# Altium footprint library LEDs.PcbLib: 54 footprints (part 1 of 4)
Each footprint in its own frame and in the unit in brackets; x right, y up, seen from the top. Pads: shape width x height; smd on the part's side, far side on the other; paste and mask are expansions set on the pad; w line width, h text height; cw(c..) or ccw(c..) is an arc to the next point about the centre after c.
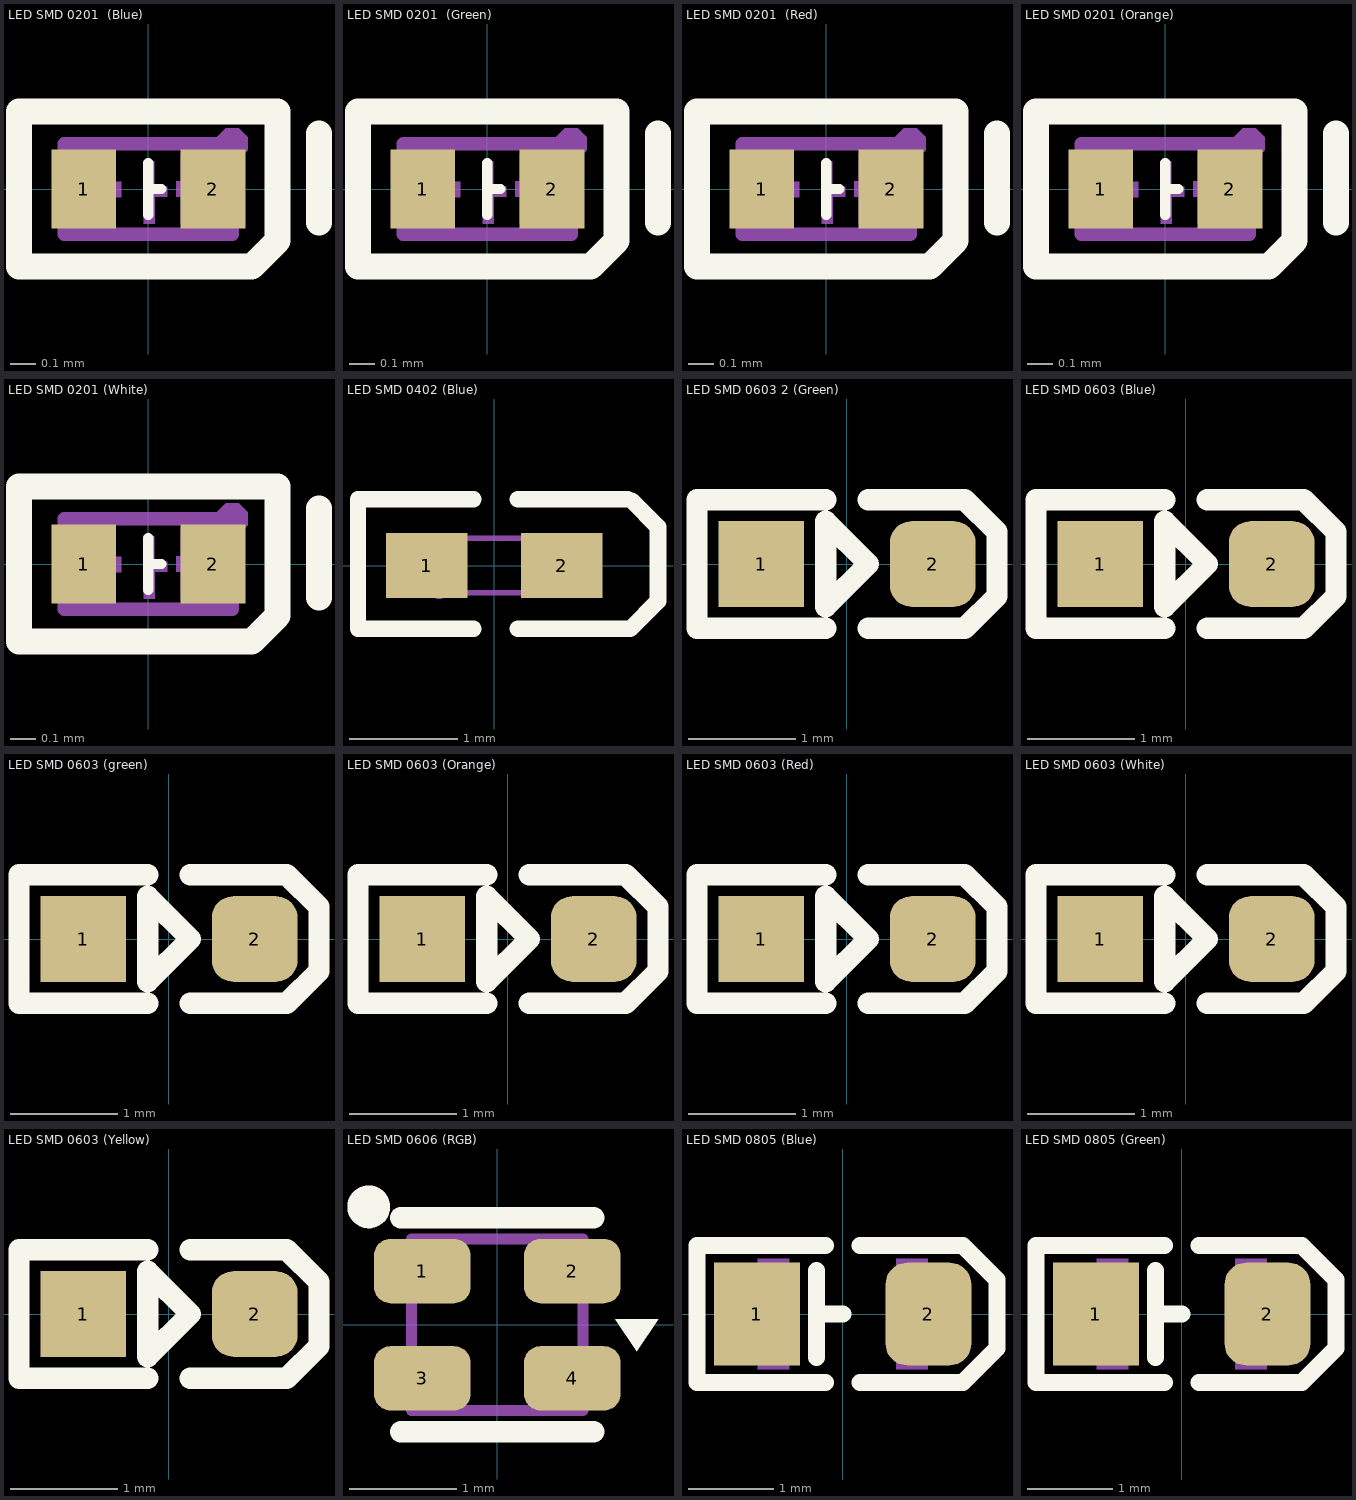
[diagram p0: the footprints below, top view; thin cyan lines are the x and y axes]

## LED SMD 0201  (Blue) [mm]
pads (2):
  rect 0.25x0.305 smd paste+0 mask+0.05: 1(-0.25,0) 2(0.25,0)
Top Overlay:
  lines w0.04: 0,-0.1 0,0.1 ; 0,0 0.05,0
  lines w0.1: -0.2,-0.3 0.4,-0.3 0.5,-0.2 0.5,0.3 -0.5,0.3 -0.5,-0.3 -0.1,-0.3 ; 0.66,-0.13 0.66,0.215
Mechanical 6:
  region: 0.318,0.03 0.108,0.03 0.108,-0.03 0.318,-0.03
  region: -0.24,0.098 -0.24,-0.112 -0.18,-0.112 -0.18,0.098
  region: -0.104,0.029 -0.314,0.029 -0.314,-0.031 -0.104,-0.031
  region: 0.025,-0.134 -0.017,-0.134 -0.017,0.108 0.023,0.108 0.023,0.008 0.073,0.008 0.073,-0.029 0.025,-0.029 0.025,-0.034
Mechanical 15:
  region: 0.265,0.175 0.265,0.15 0.3,0.115 0.35,0.115 0.385,0.15 0.385,0.175 0.385,0.2 0.35,0.235 0.3,0.235 0.265,0.2
  region: -0.125,-0.135 -0.285,-0.135 -0.285,0.135 -0.125,0.135
  region: 0.285,-0.135 0.125,-0.135 0.125,0.135 0.285,0.135
  lines w0.051: -0.325,-0.175 0.325,-0.175 0.325,0.175 -0.325,0.175 -0.325,-0.175

## LED SMD 0201  (Green) [mm]
pads (2):
  rect 0.25x0.305 smd paste+0 mask+0.05: 1(-0.25,0) 2(0.25,0)
Top Overlay:
  lines w0.04: 0,-0.1 0,0.1 ; 0,0 0.05,0
  lines w0.1: -0.2,-0.3 0.4,-0.3 0.5,-0.2 0.5,0.3 -0.5,0.3 -0.5,-0.3 -0.1,-0.3 ; 0.66,-0.13 0.66,0.215
Mechanical 6:
  region: 0.318,0.03 0.108,0.03 0.108,-0.03 0.318,-0.03
  region: -0.24,0.098 -0.24,-0.112 -0.18,-0.112 -0.18,0.098
  region: -0.104,0.029 -0.314,0.029 -0.314,-0.031 -0.104,-0.031
  region: 0.025,-0.134 -0.017,-0.134 -0.017,0.108 0.023,0.108 0.023,0.008 0.073,0.008 0.073,-0.029 0.025,-0.029 0.025,-0.034
Mechanical 15:
  region: 0.265,0.175 0.265,0.15 0.3,0.115 0.35,0.115 0.385,0.15 0.385,0.175 0.385,0.2 0.35,0.235 0.3,0.235 0.265,0.2
  region: -0.125,-0.135 -0.285,-0.135 -0.285,0.135 -0.125,0.135
  region: 0.285,-0.135 0.125,-0.135 0.125,0.135 0.285,0.135
  lines w0.051: -0.325,-0.175 0.325,-0.175 0.325,0.175 -0.325,0.175 -0.325,-0.175

## LED SMD 0201  (Red) [mm]
pads (2):
  rect 0.25x0.305 smd paste+0 mask+0.05: 1(-0.25,0) 2(0.25,0)
Top Overlay:
  lines w0.04: 0,-0.1 0,0.1 ; 0,0 0.05,0
  lines w0.1: -0.2,-0.3 0.4,-0.3 0.5,-0.2 0.5,0.3 -0.5,0.3 -0.5,-0.3 -0.1,-0.3 ; 0.66,-0.13 0.66,0.215
Mechanical 6:
  region: 0.025,-0.134 -0.017,-0.134 -0.017,0.108 0.023,0.108 0.023,0.008 0.073,0.008 0.073,-0.029 0.025,-0.029 0.025,-0.034
  region: -0.104,0.029 -0.314,0.029 -0.314,-0.031 -0.104,-0.031
  region: -0.24,0.098 -0.24,-0.112 -0.18,-0.112 -0.18,0.098
  region: 0.318,0.03 0.108,0.03 0.108,-0.03 0.318,-0.03
Mechanical 15:
  region: 0.285,-0.135 0.125,-0.135 0.125,0.135 0.285,0.135
  region: -0.125,-0.135 -0.285,-0.135 -0.285,0.135 -0.125,0.135
  region: 0.265,0.175 0.265,0.15 0.3,0.115 0.35,0.115 0.385,0.15 0.385,0.175 0.385,0.2 0.35,0.235 0.3,0.235 0.265,0.2
  lines w0.051: -0.325,-0.175 -0.325,0.175 0.325,0.175 0.325,-0.175 -0.325,-0.175

## LED SMD 0201 (Orange) [mm]
pads (2):
  rect 0.25x0.305 smd paste+0 mask+0.05: 1(-0.25,0) 2(0.25,0)
Top Overlay:
  lines w0.04: 0,-0.1 0,0.1 ; 0,0 0.05,0
  lines w0.1: -0.2,-0.3 0.4,-0.3 0.5,-0.2 0.5,0.3 -0.5,0.3 -0.5,-0.3 -0.1,-0.3 ; 0.66,-0.13 0.66,0.215
Mechanical 6:
  region: 0.025,-0.134 -0.017,-0.134 -0.017,0.108 0.023,0.108 0.023,0.008 0.073,0.008 0.073,-0.029 0.025,-0.029 0.025,-0.034
  region: -0.104,0.029 -0.314,0.029 -0.314,-0.031 -0.104,-0.031
  region: -0.24,0.098 -0.24,-0.112 -0.18,-0.112 -0.18,0.098
  region: 0.318,0.03 0.108,0.03 0.108,-0.03 0.318,-0.03
Mechanical 15:
  region: 0.285,-0.135 0.125,-0.135 0.125,0.135 0.285,0.135
  region: -0.125,-0.135 -0.285,-0.135 -0.285,0.135 -0.125,0.135
  region: 0.265,0.175 0.265,0.15 0.3,0.115 0.35,0.115 0.385,0.15 0.385,0.175 0.385,0.2 0.35,0.235 0.3,0.235 0.265,0.2
  lines w0.051: -0.325,-0.175 -0.325,0.175 0.325,0.175 0.325,-0.175 -0.325,-0.175

## LED SMD 0201 (White) [mm]
pads (2):
  rect 0.25x0.305 smd paste+0 mask+0.05: 1(-0.25,0) 2(0.25,0)
Top Overlay:
  lines w0.04: 0,-0.1 0,0.1 ; 0,0 0.05,0
  lines w0.1: -0.2,-0.3 0.4,-0.3 0.5,-0.2 0.5,0.3 -0.5,0.3 -0.5,-0.3 -0.1,-0.3 ; 0.66,-0.13 0.66,0.215
Mechanical 6:
  region: 0.318,0.03 0.108,0.03 0.108,-0.03 0.318,-0.03
  region: -0.24,0.098 -0.24,-0.112 -0.18,-0.112 -0.18,0.098
  region: -0.104,0.029 -0.314,0.029 -0.314,-0.031 -0.104,-0.031
  region: 0.025,-0.134 -0.017,-0.134 -0.017,0.108 0.023,0.108 0.023,0.008 0.073,0.008 0.073,-0.029 0.025,-0.029 0.025,-0.034
Mechanical 15:
  region: 0.265,0.175 0.265,0.15 0.3,0.115 0.35,0.115 0.385,0.15 0.385,0.175 0.385,0.2 0.35,0.235 0.3,0.235 0.265,0.2
  region: -0.125,-0.135 -0.285,-0.135 -0.285,0.135 -0.125,0.135
  region: 0.285,-0.135 0.125,-0.135 0.125,0.135 0.285,0.135
  lines w0.051: -0.325,-0.175 0.325,-0.175 0.325,0.175 -0.325,0.175 -0.325,-0.175

## LED SMD 0402 (Blue) [mm]
pads (2):
  rect 0.75x0.6 smd: 1(-0.623,0) 2(0.623,0)
Top Overlay:
  lines w0.15: -0.19,-0.583 -1.257,-0.583 -1.257,0.611 -0.19,0.611
  lines w0.152: 0.216,-0.583 1.257,-0.583 1.511,-0.329 1.511,0.357 1.27,0.598 1.232,0.611 0.216,0.611
Mechanical 6:
  region: -0.584,0.203 -0.584,-0.203 -0.66,-0.203 -0.66,0.203
  region: -0.406,-0.038 -0.813,-0.038 -0.813,0.038 -0.406,0.038
  region: 0.94,-0.038 0.533,-0.038 0.533,0.038 0.94,0.038
Mechanical 15:
  region: 0.297,0.25 0.51,0.25 0.51,-0.25 0.297,-0.25
  region: -0.297,-0.25 -0.51,-0.25 -0.51,0.25 -0.297,0.25
  region: -0.57,-0.25 -0.569,-0.274 -0.534,-0.308 -0.486,-0.308 -0.451,-0.274 -0.45,-0.25 -0.451,-0.226 -0.486,-0.192 -0.534,-0.192 -0.569,-0.226 -0.57,-0.25
  lines w0.051: -0.5,-0.25 -0.5,0.25 0.5,0.25 0.5,-0.25 -0.5,-0.25

## LED SMD 0603 2 (Green) [mm]
pads (2):
  rect 0.8x0.8 smd mask+0.075: 1(-0.8,0)
  rrect50% 0.8x0.8 smd mask+0.075: 2(0.8,0)
Top Overlay:
  lines w0.2: -0.2,-0.6 -1.4,-0.6 -1.4,0.6 -0.2,0.6 ; 0.2,-0.6 1.1,-0.6 1.4,-0.3 1.4,0.3 1.1,0.6 0.2,0.6 ; -0.2,-0.4 0.2,0 -0.2,0.4 -0.2,-0.4
3D body "User Library-LTST-C190GKT.STEP": height 0.9, standoff 0, extent -0.85,-0.45 0.85,0.45

## LED SMD 0603 (Blue) [mm]
pads (2):
  rect 0.8x0.8 smd mask+0.075: 1(-0.8,0)
  rrect50% 0.8x0.8 smd mask+0.075: 2(0.8,0)
Top Overlay:
  lines w0.2: -0.2,-0.6 -1.4,-0.6 -1.4,0.6 -0.2,0.6 ; 0.2,-0.6 1.1,-0.6 1.4,-0.3 1.4,0.3 1.1,0.6 0.2,0.6 ; -0.2,-0.4 -0.2,0.4 0.2,0 -0.2,-0.4
3D body: height 0.4, standoff 0, extent 0.6,-0.4 0.8,0.4
3D body: height 0.4, standoff 0, extent -0.8,-0.4 -0.6,0.4
3D body: height 0.4, standoff 0, extent -0.6,-0.4 0.6,0.4
3D body: height 0.5, standoff 0, extent -0.4,-0.3 0.4,0.3

## LED SMD 0603 (green) [mm]
pads (2):
  rect 0.8x0.8 smd mask+0.075: 1(-0.8,0)
  rrect50% 0.8x0.8 smd mask+0.075: 2(0.8,0)
Top Overlay:
  lines w0.2: -0.2,-0.6 -1.4,-0.6 -1.4,0.6 -0.2,0.6 ; 0.2,-0.6 1.1,-0.6 1.4,-0.3 1.4,0.3 1.1,0.6 0.2,0.6 ; -0.2,-0.4 -0.2,0.4 0.2,0 -0.2,-0.4
3D body: height 0.5, standoff 0, extent -0.4,-0.3 0.4,0.3
3D body: height 0.4, standoff 0, extent -0.6,-0.4 0.6,0.4
3D body: height 0.4, standoff 0, extent -0.8,-0.4 -0.6,0.4
3D body: height 0.4, standoff 0, extent 0.6,-0.4 0.8,0.4

## LED SMD 0603 (Orange) [mm]
pads (2):
  rect 0.8x0.8 smd mask+0.075: 1(-0.8,0)
  rrect50% 0.8x0.8 smd mask+0.075: 2(0.8,0)
Top Overlay:
  lines w0.2: -0.2,-0.6 -1.4,-0.6 -1.4,0.6 -0.2,0.6 ; 0.2,-0.6 1.1,-0.6 1.4,-0.3 1.4,0.3 1.1,0.6 0.2,0.6 ; -0.2,-0.4 -0.2,0.4 0.2,0 -0.2,-0.4
3D body: height 0.4, standoff 0, extent 0.6,-0.4 0.8,0.4
3D body: height 0.4, standoff 0, extent -0.8,-0.4 -0.6,0.4
3D body: height 0.4, standoff 0, extent -0.6,-0.4 0.6,0.4
3D body: height 0.5, standoff 0, extent -0.4,-0.3 0.4,0.3

## LED SMD 0603 (Red) [mm]
pads (2):
  rect 0.8x0.8 smd mask+0.075: 1(-0.8,0)
  rrect50% 0.8x0.8 smd mask+0.075: 2(0.8,0)
Top Overlay:
  lines w0.2: -0.2,-0.6 -1.4,-0.6 -1.4,0.6 -0.2,0.6 ; 0.2,-0.6 1.1,-0.6 1.4,-0.3 1.4,0.3 1.1,0.6 0.2,0.6 ; -0.2,-0.4 0.2,0 -0.2,0.4 -0.2,-0.4
3D body: height 0.4, standoff 0, extent 0.6,-0.4 0.8,0.4
3D body: height 0.4, standoff 0, extent -0.8,-0.4 -0.6,0.4
3D body: height 0.4, standoff 0, extent -0.6,-0.4 0.6,0.4
3D body: height 0.5, standoff 0, extent -0.4,-0.3 0.4,0.3

## LED SMD 0603 (White) [mm]
pads (2):
  rect 0.8x0.8 smd mask+0.075: 1(-0.8,0)
  rrect50% 0.8x0.8 smd mask+0.075: 2(0.8,0)
Top Overlay:
  lines w0.2: -0.2,-0.6 -1.4,-0.6 -1.4,0.6 -0.2,0.6 ; 0.2,-0.6 1.1,-0.6 1.4,-0.3 1.4,0.3 1.1,0.6 0.2,0.6 ; -0.2,-0.4 -0.2,0.4 0.2,0 -0.2,-0.4
3D body: height 0.5, standoff 0, extent -0.4,-0.3 0.4,0.3
3D body: height 0.4, standoff 0, extent -0.6,-0.4 0.6,0.4
3D body: height 0.4, standoff 0, extent -0.8,-0.4 -0.6,0.4
3D body: height 0.4, standoff 0, extent 0.6,-0.4 0.8,0.4

## LED SMD 0603 (Yellow) [mm]
pads (2):
  rect 0.8x0.8 smd mask+0.075: 1(-0.8,0)
  rrect50% 0.8x0.8 smd mask+0.075: 2(0.8,0)
Top Overlay:
  lines w0.2: -0.2,-0.6 -1.4,-0.6 -1.4,0.6 -0.2,0.6 ; 0.2,-0.6 1.1,-0.6 1.4,-0.3 1.4,0.3 1.1,0.6 0.2,0.6 ; -0.2,-0.4 -0.2,0.4 0.2,0 -0.2,-0.4
3D body: height 0.5, standoff 0, extent -0.4,-0.3 0.4,0.3
3D body: height 0.4, standoff 0, extent -0.6,-0.4 0.6,0.4
3D body: height 0.4, standoff 0, extent -0.8,-0.4 -0.6,0.4
3D body: height 0.4, standoff 0, extent 0.6,-0.4 0.8,0.4

## LED SMD 0606 (RGB) [mm]
pads (4):
  rrect50% 0.9x0.6 smd: 1(-0.7,0.5) 2(0.7,0.5) 3(-0.7,-0.5) 4(0.7,-0.5)
Top Overlay:
  circle w0.2: c-1.2,1.1 r0.1
  region: 1.1,0.05 1.5,0.05 1.3,-0.25
  lines w0.2: -0.9,-1 0.9,-1 ; -0.9,1 0.9,1
Mechanical 13:
  lines w0.1: -0.8,-0.8 -0.8,0.8 0.8,0.8 0.8,-0.8 -0.8,-0.8
3D body "User Library-HSMF-C114.step": height 0.34, standoff -0.01, extent -0.8,-0.75 0.8,0.75

## LED SMD 0805 (Blue) [mm]
pads (2):
  rect 1x1.2 smd mask+0.075: 1(-1,0)
  rrect50% 1x1.2 smd mask+0.075: 2(1,0)
Top Overlay:
  lines w0.2: -0.305,-0.508 -0.305,0.508 ; -0.305,0 0,0 ; -0.2,-0.8 -1.7,-0.8 -1.7,0.8 -0.2,0.8 ; 0.2,-0.8 1.4,-0.8 1.8,-0.4 1.8,0.4 1.4,0.8 0.2,0.8
Mechanical 13:
  region: 0.995,-0.19 0.842,-0.19 0.842,-0.65 0.995,-0.65
  region: 0.995,0.65 0.842,0.65 0.842,0.191 0.995,0.191
  region: 0.848,0.65 0.619,0.65 0.619,-0.65 0.848,-0.65
  rectangle: -0.995,-0.65 -0.842,-0.191
  rectangle: -0.995,0.19 -0.842,0.65
  rectangle: -0.848,-0.65 -0.619,0.65
  lines w0.102: -1,-0.191 ccw(c-1,0) -1,0.191 ; 1,-0.191 cw(c1,0) 1,0.191
3D body "User Library-Wurth Elektronik WL-SMCW 0805 (2012) LED Base (Separate Lens).step": height 0.64, standoff 0, extent -1,-0.625 1,0.625
3D body "User Library-Wurth Elektronik WL-SMCW 0805 (2012) LED Lens (Separate Body).step": height 0.7, standoff 0.3, extent -0.7,-0.625 0.7,0.625

## LED SMD 0805 (Green) [mm]
pads (2):
  rect 1x1.2 smd mask+0.075: 1(-1,0)
  rrect50% 1x1.2 smd mask+0.075: 2(1,0)
Top Overlay:
  lines w0.2: -0.305,-0.508 -0.305,0.508 ; -0.305,0 0,0 ; -0.2,-0.8 -1.7,-0.8 -1.7,0.8 -0.2,0.8 ; 0.2,-0.8 1.4,-0.8 1.8,-0.4 1.8,0.4 1.4,0.8 0.2,0.8
Mechanical 13:
  region: 0.995,-0.19 0.842,-0.19 0.842,-0.65 0.995,-0.65
  region: 0.995,0.65 0.842,0.65 0.842,0.191 0.995,0.191
  region: 0.848,0.65 0.619,0.65 0.619,-0.65 0.848,-0.65
  rectangle: -0.995,-0.65 -0.842,-0.191
  rectangle: -0.995,0.19 -0.842,0.65
  rectangle: -0.848,-0.65 -0.619,0.65
  lines w0.102: -1,-0.191 ccw(c-1,0) -1,0.191 ; 1,-0.191 cw(c1,0) 1,0.191
3D body "User Library-Wurth Elektronik WL-SMCW 0805 (2012) LED Lens (Separate Body).step": height 0.7, standoff 0.3, extent -0.7,-0.625 0.7,0.625
3D body "User Library-Wurth Elektronik WL-SMCW 0805 (2012) LED Base (Separate Lens).step": height 0.64, standoff 0, extent -1,-0.625 1,0.625